# Altium schematic symbol library Schlib1.SchLib: 3 symbols
Pins are listed as number, name and electrical type; pins without a type are passive.

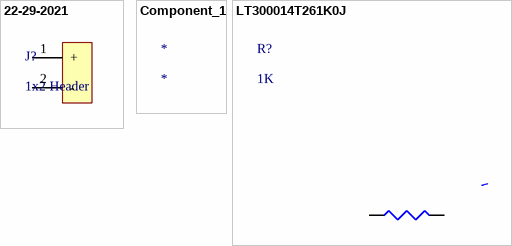
[diagram p0: symbols 22-29-2021 to LT300014T261K0J]

## 22-29-2021
designator J?, comment 1x2 Header
KK 254 Wire-to-Board Header, Vertical, with Friction Lock, 2 Circuits, Gold (Au) Plating; Manufacturer: Molex; Supplier 1: Mouser; Manufacturer Part Number: 22-29-2021; RoHS: Yes; Category: Headers and Wire Housings; Pricing 1: 1=0.46000, 10=0.38500, 50=0.38500, 100=0.29900, 500=0.28500, 1000=0.23500, 2500=0.21400, 5000=0.19300, 10000=0.19000, 24000=0.18500 (USD); Supplier Part Number 1: 538-22-29-2021
pins: 1 +, 2 -

## Component_1
designator *

## LT300014T261K0J
designator R?, comment 1K
Thermistor PTC 1KOhm 5% 2-Pin Axial Ammo Pack; Manufacturer: TE Connectivity; Manufacturer Part Number: LT300014T261K0J; Resistance: 1kR; Max Power Dissipation: 250mW; Response Time: 7.5s; Insulation Resistance: 10GR; Lead Length: 30mm; Body Diameter: 2.3mm; Supplier 1: Digi-Key; Supplier Part Number 1: LT300014T261K0J-ND; RoHS: Yes; Category: Interface ICs; Mount: Through Hole; Case/Package: Axial; Number of Pins: 2; Min Operating Temperature: -40°C; Max Operating Temperature: 125°C; Tolerance: 5%; Packaging: Bulk; Series: Citec; Package Quantity: 2000; Power Rating: 250mW; Resistance Tolerance: 5%; Radiation Hardening: No; RoHS Compliant: Yes; REACH SVHC: Unknown; ELV: Compliant; ComponentLink1URL: https://datasheet.ciiva.com/1579/eng-ds-1773243-a-1579147.pdf?src-supplier=Element14; ComponentLink1Description: https://datasheet.ciiva.com/1579/eng-ds-1773243-a-1579147.pdf?src-supplier=Element14; ComponentLink2URL: https://datasheet.ciiva.com/1579/312629-1579148.pdf?src-supplier=Element14; ComponentLink2Description: https://datasheet.ciiva.com/1579/312629-1579148.pdf?src-supplier=Element14
pins: 1, 2